# Altium schematic symbol library 1N5819_flat.SchLib: 1 symbol
Pins are listed as number, name and electrical type; pins without a type are passive.

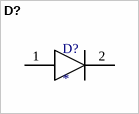
[diagram p0: symbol D?]

## D?
designator D?
footprint D?
pins: 1, 2